# Altium schematic symbol library IRL530NSTRLPBF.SchLib: 2 symbols
Pins are listed as number, name and electrical type; pins without a type are passive.

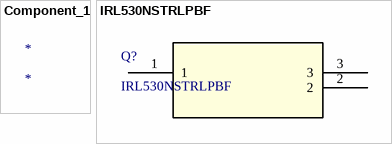
[diagram p0: symbols Component_1 to IRL530NSTRLPBF]

## Component_1
designator *

## IRL530NSTRLPBF
designator Q?
No Description Available; Mfr_Name: Infineon; Type: DEV; Copyright: Copyright (C) 2022 Ultra Librarian. All rights reserved.; Manufacturer_Part_Number: IRL530NSTRLPBF; RefDes: RefDes
footprint IRL530NSTRLPBF_INF
pins: 1, 2, 3